# Altium schematic symbol library 67996-408HLF.SchLib: 1 symbol
Pins are listed as number, name and electrical type; pins without a type are passive.

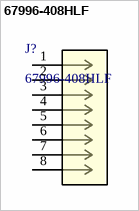
[diagram p0: symbol 67996-408HLF]

## 67996-408HLF
designator J?
No Description Available; Mfr_Name: Amphenol ICC; Copyright: Copyright (C) 2022 Ultra Librarian. All rights reserved.; Manufacturer_Part_Number: 67996-408HLF; Digi-Key_Part_Number_1: 609-3391-ND; Digi-Key_Part_Number_2: 609-3391-NDL; RefDes: RefDes; Type: DEV
footprint 67996-408HLF_AMP
pins: 1, 2, 3, 4, 5, 6, 7, 8